# Altium schematic symbol library SC16IS740.SchLib: 1 symbol
Pins are listed as number, name and electrical type; pins without a type are passive.

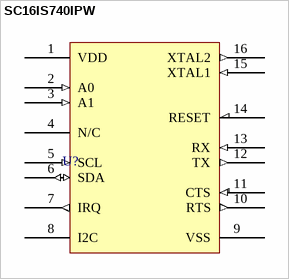
[diagram p0: symbol SC16IS740IPW]

## SC16IS740IPW
designator U?, comment SC16IS740  (value not drawn)
I2C to UART Interface; Datasheet: http://au.element14.com/nxp/sc16is740ipw-112/single-uart-fifo-5mbps-3-6v-tssop/dp/1831258#techDocsHook
pins: 1 VDD, 2 A0 (in), 3 A1 (in), 4 N/C, 5 SCL (in), 6 SDA (io), 7 IRQ (out), 8 I2C, 9 VSS (power), 10 RTS (out), 11 CTS (in), 12 TX (out), 13 RX (in), 14 RESET, 15 XTAL1 (in), 16 XTAL2 (out)